# EAGLE library part RJ45_2X (library Cynara-Connectors)
WR-MJ Horizontal Shielded Dual Port 8P8C Modular Jack Tab Down, 16 Pins=>Code : Con_I-O_MJ-H_Shielded_Down_615016137621 <http://katalog.we-online.de/media/images/eican/Con_I-O_MJ-H_Shielded_Down_615016137621_pf2.jpg> Details see: http://katalog.we-online.de/en/em/615_016_137_621 Created 2014-07-10, Karrer Zheng 2014 (C) Würth Elektronik
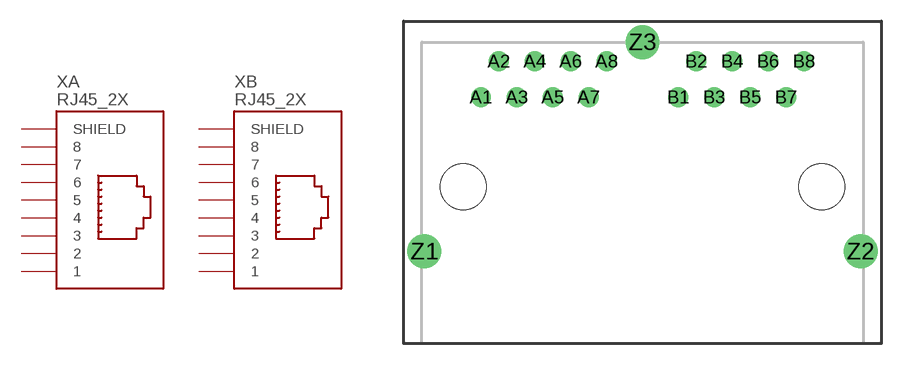
[diagram p3: symbol with the pads of 615016137621; footprint 615016137621]

Designator prefix X; gates A=RJ45_SHLD B=RJ45_SHLD

## RJ45_2XWURTH (MANUFACTURER: Wurth-Electronics; MANUFACTURERPARTNO: 615016137621; VALUE: RJ45 2X)  [615016137621]
A1  A:1  pas
A2  A:2  pas
A3  A:3  pas
A4  A:4  pas
A5  A:5  pas
A6  A:6  pas
A7  A:7  pas
A8  A:8  pas
B1  B:1  pas
B2  B:2  pas
B3  B:3  pas
B4  B:4  pas
B5  B:5  pas
B6  B:6  pas
B7  B:7  pas
B8  B:8  pas
Z1  A:SHIELD  pas
Z2  B:SHIELD  pas
Z3  B:SHIELD  pas

## Footprint 615016137621 (pad centres in mm)
WR-MJ Horizontal Shielded Dual Port 8P8C Modular Jack Tab Down, 16 Pins
drill 0.9: A1 -11.43,-1.27; A2 -10.16,1.27; A3 -8.89,-1.27; A4 -7.62,1.27; A5 -6.35,-1.27; A6 -5.08,1.27; A7 -3.81,-1.27; A8 -2.54,1.27; B1 2.54,-1.27; B2 3.81,1.27; B3 5.08,-1.27; B4 6.35,1.27; B5 7.62,-1.27; B6 8.89,1.27; B7 10.16,-1.27; B8 11.43,1.27
drill 1.6: Z1 -15.435,-12.19; Z2 15.435,-12.19; Z3 0,2.62
hole 3.25 at -12.7,-7.62
hole 3.25 at 12.7,-7.62